# EAGLE library part ZXGD3002E6 (library zetex)
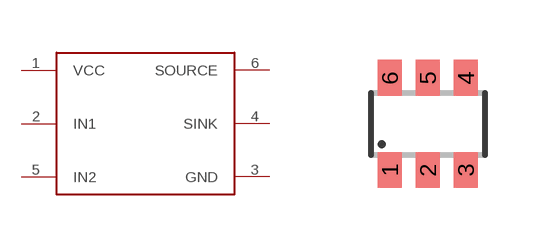
[diagram p0: symbol with the pads of SOT23-6; footprint SOT23-6]

Designator prefix -

## ZXGD3002E6  [SOT23-6]
1  VCC
2  IN1
3  GND
4  SINK
5  IN2
6  SOURCE

## Footprint SOT23-6 (pad centres in mm)
Small Outline Transistor 6 lead
smd 0.6 x 0.9: 1 -0.95,-1.15; 2 0,-1.15; 3 0.95,-1.15; 4 0.95,1.15; 5 0,1.15; 6 -0.95,1.15